# Altium footprint library TSW-104-05-G-S.PcbLib: 1 footprints
Each footprint in its own frame and in the unit in brackets; x right, y up, seen from the top. Pads: shape width x height; smd on the part's side, far side on the other; paste and mask are expansions set on the pad; w line width, h text height; cw(c..) or ccw(c..) is an arc to the next point about the centre after c.
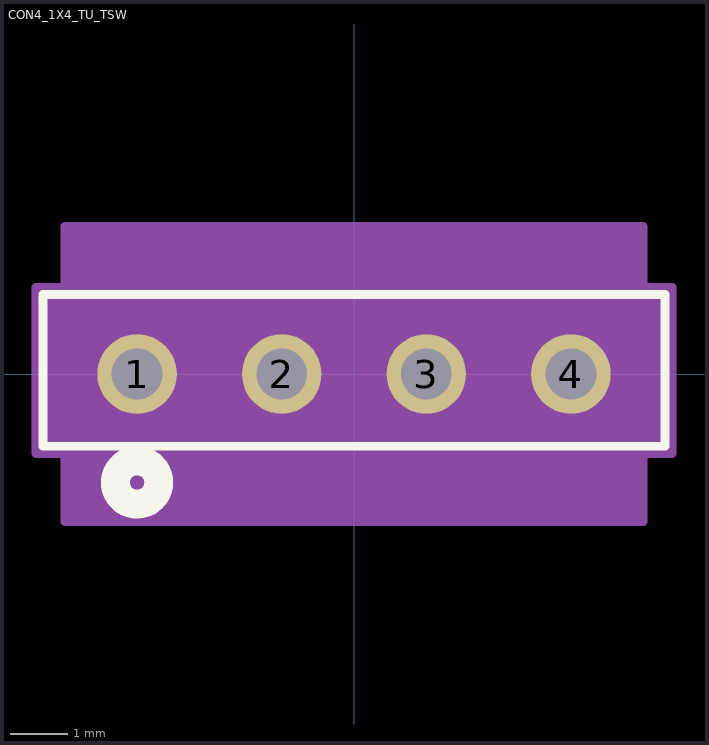
[diagram p0: the footprint, top view; thin cyan lines are the x and y axes]

## CON4_1X4_TU_TSW [mil]
pads (4):
  round 55 hole 35 paste-27.5 mask+0: 1(-150,0) 2(-50,0) 3(50,0) 4(150,0)
Top Overlay:
  circle w20: c-150,-75 r15
  lines w6: -215,-50 215,-50 215,55 -215,55 -215,-50
  text ".Designator" at -137.5,-25 h50
Bottom Overlay:
  circle w20: c-150,-75 r15
Mechanical 13:
  circle w1: c-150,0 r10
  lines w1: -210,-45 210,-45 210,50 -210,50 -210,-45
  text ".Designator" at -137.5,-25 h50
Mechanical 15:
  region: 220,60 200,60 200,102 -200,102 -200,60 -220,60 -220,-55 -200,-55 -200,-102 200,-102 200,-55 220,-55
  lines w6: -220,-55 -220,60 -200,60 -200,102 200,102 200,60 220,60 220,-55 200,-55 200,-102 -200,-102 -200,-55 -220,-55
3D body "CON4_1X4_TU_TSW.step": height 500, standoff -200, extent -200,-50 200,50